# Altium schematic symbol library RT0603BRD071K5L.SchLib: 1 symbol
Pins are listed as number, name and electrical type; pins without a type are passive.

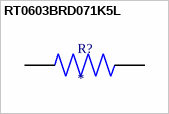
[diagram p0: symbol RT0603BRD071K5L]

## RT0603BRD071K5L
designator R?
MP: RT0603BRD071K5L; MF: {'manufacturer': u'Yageo'}; Price: None; Availability: Unavailable; Value: *; Package: None
footprint RESC1608X55N
pins: 1, 2